# EAGLE library part ADXL345 (library SDSURocket-BreakoutBoards)
ADXL345 Breakout Generic 3-axis Accelerometer Layout for a generic ADXL345 Breakout board. Commonly sourced from Hong Kong and found on eBay.
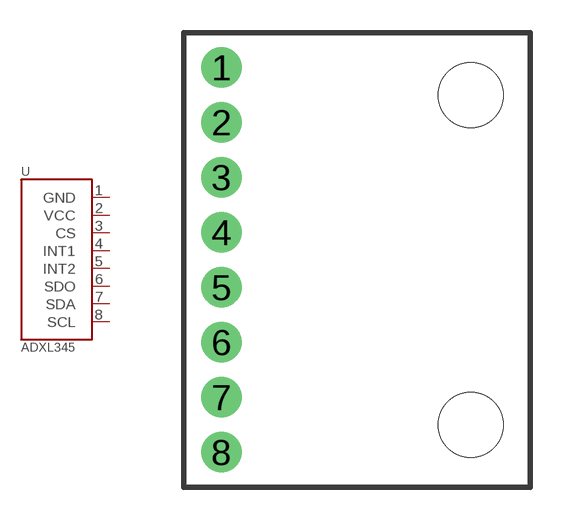
[diagram p5: symbol with the pads of ADXL345; footprint ADXL345]

Designator prefix -

## ADXL345-BREAKOUT  [ADXL345]
1  GND  pwr
2  VCC  pwr
3  CS  in
4  INT1  out
5  INT2  out
6  SDO
7  SDA
8  SCL  in

## Footprint ADXL345 (pad centres in mm)
ADXL345 Breakout Generic 3-axis Accelerometer Layout for a generic ADXL345 Breakout board. Commonly sourced from Hong Kong and found on eBay.
drill 1.016 pad 1.88: 1 -6.25,8.89; 2 -6.25,6.35; 3 -6.25,3.81; 4 -6.25,1.27; 5 -6.25,-1.27; 6 -6.25,-3.81; 7 -6.25,-6.35; 8 -6.25,-8.89
hole 3 at 5.25,-7.63
hole 3 at 5.25,7.61